# EAGLE library part BMP280 (library Bits_library_eagle 9x)
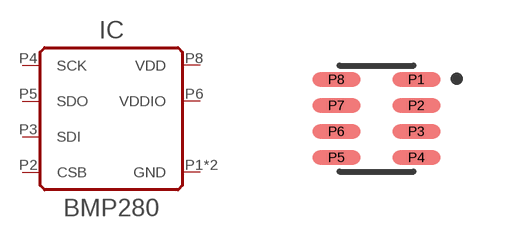
[diagram p38: symbol with the pads of LGA-8; footprint LGA-8]

Designator prefix IC

## BMP280  [LGA-8]
P1  GND  pwr
P2  CSB
P3  SDI
P4  SCK
P5  SDO
P6  VDDIO  pwr
P7  GND  pwr
P8  VDD  pwr

## Footprint LGA-8 (pad centres in mm)
smd 1.2 x 0.35: P1 1,0.975; P2 1,0.325; P3 1,-0.325; P4 1,-0.975; P5 -1,-0.975; P6 -1,-0.325; P7 -1,0.325; P8 -1,0.975